# Altium footprint library PcbLib1.PcbLib: 32 footprints (part 2 of 2)
Each footprint in its own frame and in the unit in brackets; x right, y up, seen from the top. Pads: shape width x height; smd on the part's side, far side on the other; paste and mask are expansions set on the pad; w line width, h text height; cw(c..) or ccw(c..) is an arc to the next point about the centre after c.
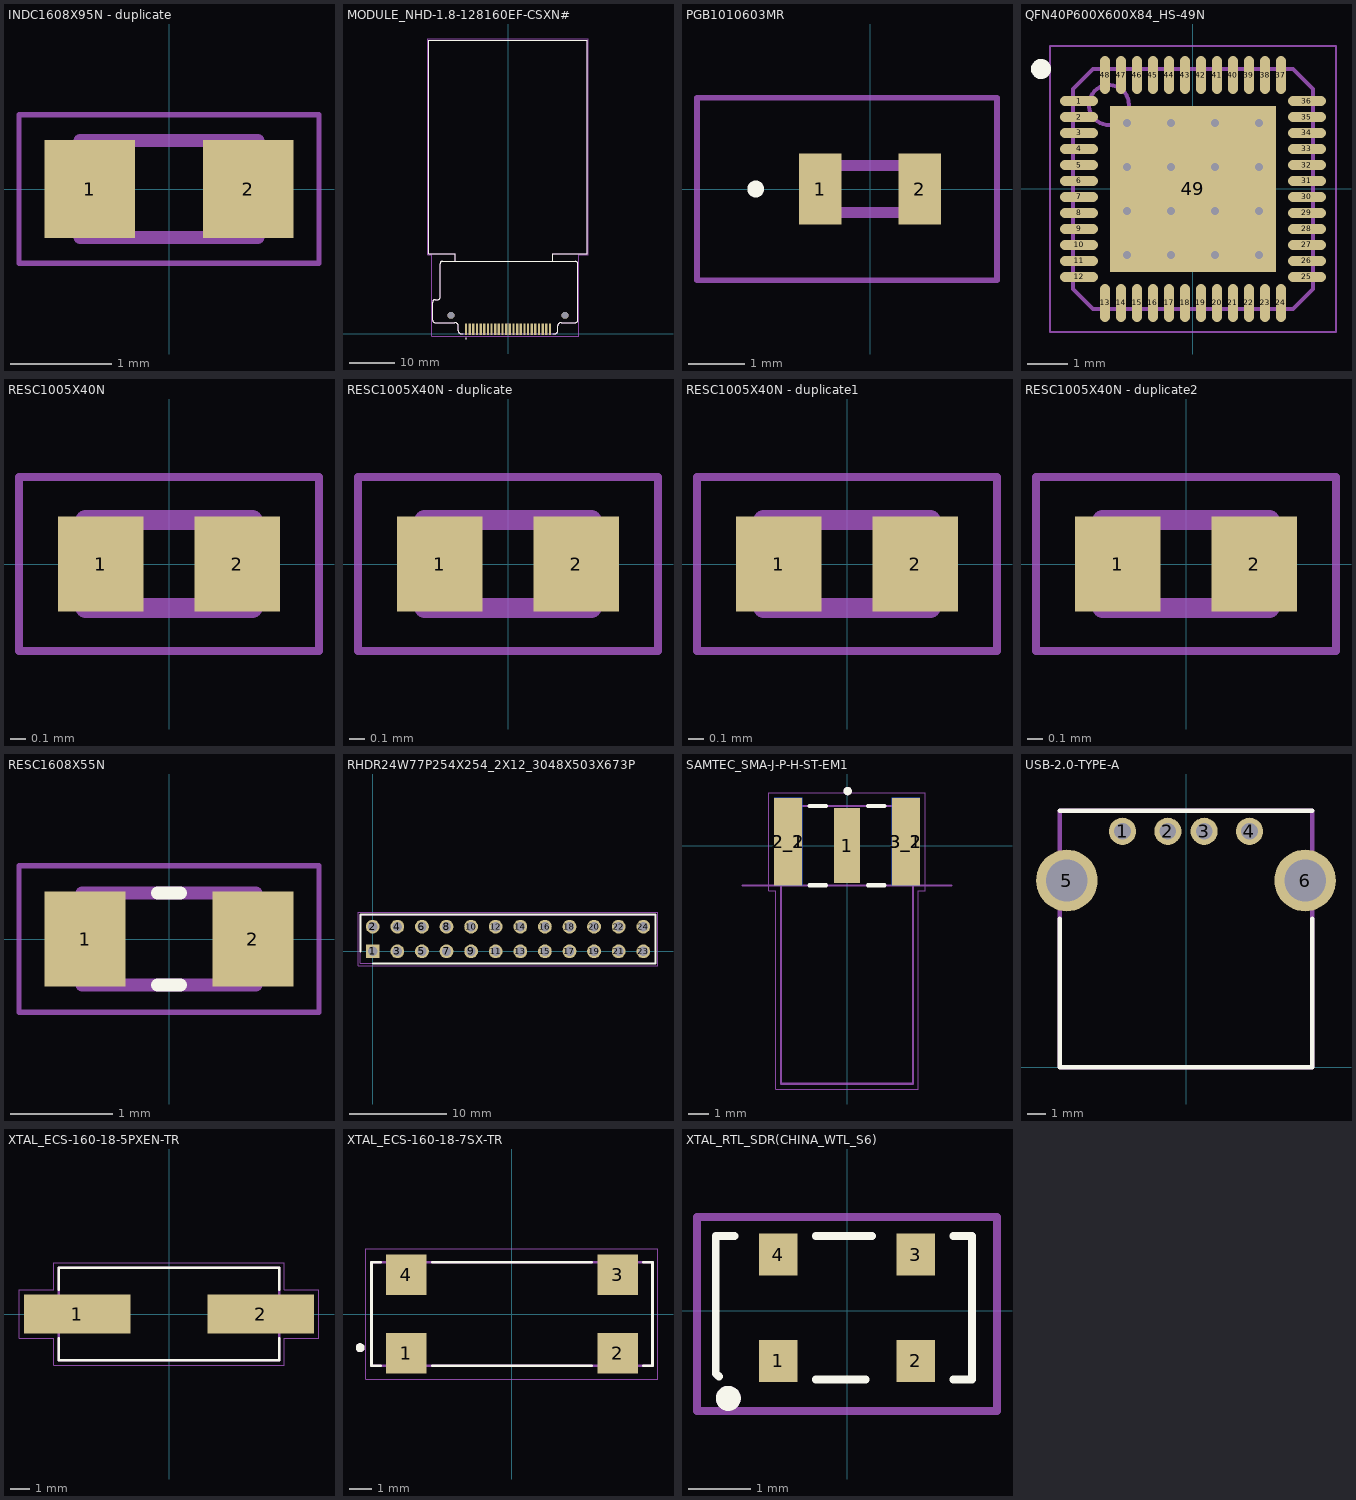
[diagram p1: the footprints below, top view; thin cyan lines are the x and y axes]

## INDC1608X95N - duplicate [mm]
pads (2):
  rect 0.9x0.97 smd: 1(-0.785,0) 2(0.785,0)
Mechanical 13:
  lines w0.127: -0.88,-0.48 -0.88,0.48 0.88,0.48 0.88,-0.48 -0.88,-0.48
Mechanical 15:
  lines w0.05: -1.485,-0.735 -1.485,0.735 1.485,0.735 1.485,-0.735 -1.485,-0.735
3D body "step_temp.STEP": height 0.81, standoff 0.01, extent -0.8,-0.4 0.8,0.4

## MODULE_NHD-1.8-128160EF-CSXN# [mm]
pads (26):
  rect 0.5x2.5 smd: 1(-9.2,1) 2(-8.4,1) 3(-7.6,1) 4(-6.8,1) 5(-6,1) 6(-5.2,1) 7(-4.4,1) 8(-3.6,1) 9(-2.8,1) 10(-2,1) 11(-1.2,1) 12(-0.4,1) 13(0.4,1) 14(1.2,1) 15(2,1) 16(2.8,1) 17(3.6,1) 18(4.4,1) 19(5.2,1) 20(6,1) 21(6.8,1) 22(7.6,1) 23(8.4,1) 24(9.2,1)
  round 1.5 hole 1.5 unplated: ""(-12.5,4.1) ""(12.5,4.1)
Top Overlay:
  circle w0.2: c-9.2,-1 r0.1
  lines w0.127: -11.55,15.9 -11.55,17.63 -17.35,17.63 -17.35,64.38 17.35,64.38 17.35,17.63 9.85,17.63 9.85,15.9 ; -9.77,0 -10.15,0 cw(c-10.15,0.75) -10.9,0.75 -10.9,1.75 ccw(c-11.65,1.75) -11.65,2.5 -15.99,2.5 cw(c-15.99,3) -16.49,3 -16.49,7 cw(c-15.99,7) -15.99,7.5 -15.39,7.5 ccw(c-15.39,8) -14.89,8 -14.89,15.4 cw(c-14.39,15.4) -14.39,15.9 14.8,15.9 cw(c14.8,15.4) 15.3,15.4 15.3,3 cw(c14.8,3) 14.8,2.5 11.65,2.5 ccw(c11.65,1.75) 10.9,1.75 10.9,0.75 cw(c10.15,0.75) 10.15,0 9.77,0
Mechanical 13:
  circle w0.2: c-9.2,-1 r0.1
  lines w0.127: -11.55,15.9 -14.39,15.9 ccw(c-14.39,15.4) -14.89,15.4 -14.89,8 cw(c-15.39,8) -15.39,7.5 -15.99,7.5 ccw(c-15.99,7) -16.49,7 -16.49,3 ccw(c-15.99,3) -15.99,2.5 -11.65,2.5 cw(c-11.65,1.75) -10.9,1.75 -10.9,0.75 ccw(c-10.15,0.75) -10.15,0 10.15,0 ccw(c10.15,0.75) 10.9,0.75 10.9,1.75 cw(c11.65,1.75) 11.65,2.5 14.8,2.5 ccw(c14.8,3) 15.3,3 15.3,15.4 ccw(c14.8,15.4) 14.8,15.9 9.85,15.9 ; -11.55,15.9 9.85,15.9 ; -11.55,15.9 -11.55,17.63 -17.35,17.63 -17.35,64.38 17.35,64.38 17.35,17.63 9.85,17.63 9.85,15.9
Mechanical 15:
  lines w0.05: -17.6,17.38 -16.74,17.38 -16.74,-0.5 15.55,-0.5 15.55,17.38 17.6,17.38 17.6,64.63 -17.6,64.63 -17.6,17.38
3D body "NHD-1.8-128160EF-CSXN#-F.STEP": height 2.4, standoff 0, extent -17.477,-0.238 17.223,64.142

## PCBComponent_1 [mm]

## PGB1010603MR [mm]
pads (2):
  rect 0.76x1.27 smd: 1(-0.89,0) 2(0.89,0)
Top Overlay:
  lines w0.2: -2.1,0 ccw(c-2.05,0) -2,0 ; -2.1,0 cw(c-2.05,0) -2,0 ; -2.1,0 ccw(c-2.05,0) -2,0
Mechanical 15:
  lines w0.2: -0.83,-0.42 0.83,-0.42 0.83,0.42 -0.83,0.42 -0.83,-0.42
Mechanical 20:
  lines w0.1: -3.1,-1.635 2.27,-1.635 2.27,1.635 -3.1,1.635 -3.1,-1.635
3D body "PGB1010603NR.stp": height 0.36, standoff 0, extent -0.83,-0.42 0.83,0.42

## QFN40P600X600X84_HS-49N [mm] "QFN, 48-Leads, Body 6,00x6,00mm, Pitch 0,40mm, Thermal Pad 4,14x4,14mm, IPC Medium Density"
height 0.84
pads (49):
  oval 0.95x0.25 smd: 1(-2.85,2.2) 2(-2.85,1.8) 3(-2.85,1.4) 4(-2.85,1) 5(-2.85,0.6) 6(-2.85,0.2) 7(-2.85,-0.2) 8(-2.85,-0.6) 9(-2.85,-1) 10(-2.85,-1.4) 11(-2.85,-1.8) 12(-2.85,-2.2) 25(2.85,-2.2) 26(2.85,-1.8) 27(2.85,-1.4) 28(2.85,-1) 29(2.85,-0.6) 30(2.85,-0.2) 31(2.85,0.2) 32(2.85,0.6) 33(2.85,1) 34(2.85,1.4) 35(2.85,1.8) 36(2.85,2.2)
  oval 0.25x0.95 smd: 13(-2.2,-2.85) 14(-1.8,-2.85) 15(-1.4,-2.85) 16(-1,-2.85) 17(-0.6,-2.85) 18(-0.2,-2.85) 19(0.2,-2.85) 20(0.6,-2.85) 21(1,-2.85) 22(1.4,-2.85) 23(1.8,-2.85) 24(2.2,-2.85) 37(2.2,2.85) 38(1.8,2.85) 39(1.4,2.85) 40(1,2.85) 41(0.6,2.85) 42(0.2,2.85) 43(-0.2,2.85) 44(-0.6,2.85) 45(-1,2.85) 46(-1.4,2.85) 47(-1.8,2.85) 48(-2.2,2.85)
  rect 4.14x4.14 smd: 49(0,0)
via 1.65,-1.65 diameter 0.5 hole 0.2
via 0.55,-1.65 diameter 0.5 hole 0.2
via -0.55,-1.65 diameter 0.5 hole 0.2
via -1.65,-1.65 diameter 0.5 hole 0.2
via 1.65,-0.55 diameter 0.5 hole 0.2
via 0.55,-0.55 diameter 0.5 hole 0.2
via -0.55,-0.55 diameter 0.5 hole 0.2
via -1.65,-0.55 diameter 0.5 hole 0.2
via 1.65,0.55 diameter 0.5 hole 0.2
via 0.55,0.55 diameter 0.5 hole 0.2
via -0.55,0.55 diameter 0.5 hole 0.2
via -1.65,0.55 diameter 0.5 hole 0.2
via 1.65,1.65 diameter 0.5 hole 0.2
via 0.55,1.65 diameter 0.5 hole 0.2
via -0.55,1.65 diameter 0.5 hole 0.2
via -1.65,1.65 diameter 0.5 hole 0.2
Top Overlay:
  circle w0.25: c-3.8,3 r0.125
Mechanical 13:
  circle w0.1: c-2.1,2.1 r0.5
  lines w0.1: -3,-2.5 -3,2.5 -2.5,3 2.5,3 3,2.5 3,-2.5 2.5,-3 -2.5,-3 -3,-2.5
Mechanical 15:
  lines w0.05: -3.575,-3.575 3.575,-3.575 3.575,3.575 -3.575,3.575 -3.575,-3.575
  lines w0.1: -0.5,0 0.5,0 ; 0,-0.5 0,0.5
3D body "QFN40P600X600X84_HS-49N.step": height 0.84, standoff 0, extent -3.01,-3.01 3.01,3.01

## RESC1005X40N [mm]
pads (2):
  rect 0.54x0.6 smd: 1(-0.432,0) 2(0.432,0)
Mechanical 13:
  lines w0.127: -0.53,-0.28 0.53,-0.28 0.53,0.28 -0.53,0.28 -0.53,-0.28
Mechanical 15:
  lines w0.05: -0.95,-0.55 0.95,-0.55 0.95,0.55 -0.95,0.55 -0.95,-0.55
3D body "RC0402JR-071K8L.STEP": height 0.4, standoff 0, extent -0.5,-0.25 0.5,0.25

## RESC1005X40N - duplicate [mm]
pads (2):
  rect 0.54x0.6 smd: 1(-0.432,0) 2(0.432,0)
Mechanical 13:
  lines w0.127: -0.53,-0.28 -0.53,0.28 0.53,0.28 0.53,-0.28 -0.53,-0.28
Mechanical 15:
  lines w0.05: -0.95,-0.55 -0.95,0.55 0.95,0.55 0.95,-0.55 -0.95,-0.55

## RESC1005X40N - duplicate1 [mm]
pads (2):
  rect 0.54x0.6 smd: 1(-0.432,0) 2(0.432,0)
Mechanical 13:
  lines w0.127: -0.53,-0.28 -0.53,0.28 0.53,0.28 0.53,-0.28 -0.53,-0.28
Mechanical 15:
  lines w0.05: -0.95,-0.55 -0.95,0.55 0.95,0.55 0.95,-0.55 -0.95,-0.55

## RESC1005X40N - duplicate2 [mm]
pads (2):
  rect 0.54x0.6 smd: 1(-0.432,0) 2(0.432,0)
Mechanical 13:
  lines w0.127: -0.53,-0.28 -0.53,0.28 0.53,0.28 0.53,-0.28 -0.53,-0.28
Mechanical 15:
  lines w0.05: -0.95,-0.55 -0.95,0.55 0.95,0.55 0.95,-0.55 -0.95,-0.55

## RESC1608X55N [mm]
pads (2):
  rect 0.79x0.93 smd: 1(-0.82,0) 2(0.82,0)
Top Overlay:
  lines w0.127: -0.11,-0.45 0.11,-0.45 ; -0.11,0.45 0.11,0.45
Mechanical 13:
  lines w0.127: -0.85,-0.45 -0.85,0.45 0.85,0.45 0.85,-0.45 -0.85,-0.45
Mechanical 15:
  lines w0.05: -1.465,-0.715 -1.465,0.715 1.465,0.715 1.465,-0.715 -1.465,-0.715
3D body "RC0603JR-071K8L.STEP": height 0.55, standoff 0, extent -0.8,-0.4 0.8,0.4

## RHDR24W77P254X254_2X12_3048X503X673P [mm]
pads (24):
  rect 1.425x1.425 / inner round 1.425 / far side rect 1.425x1.425 hole 0.95: 1(0,0)
  round 1.425 hole 0.95: 2(0,2.54) 3(2.54,0) 4(2.54,2.54) 5(5.08,0) 6(5.08,2.54) 7(7.62,0) 8(7.62,2.54) 9(10.16,0) 10(10.16,2.54) 11(12.7,0) 12(12.7,2.54) 13(15.24,0) 14(15.24,2.54) 15(17.78,0) 16(17.78,2.54) 17(20.32,0) 18(20.32,2.54) 19(22.86,0) 20(22.86,2.54) 21(25.4,0) 22(25.4,2.54) 23(27.94,0) 24(27.94,2.54)
Top Overlay:
  lines w0.2: -1.27,0 -1.27,3.785 29.21,3.785 29.21,-1.245 0,-1.245
Mechanical 15:
  lines w0.1: -1.27,-1.245 29.21,-1.245 29.21,3.785 -1.27,3.785 -1.27,-1.245
Mechanical 20:
  lines w0.05: -1.52,-1.495 29.46,-1.495 29.46,4.035 -1.52,4.035 -1.52,-1.495
3D body "6-534998-2.stp": height 6.22, standoff -3.68, extent -1.27,-1.245 29.21,3.785

## SAMTEC_SMA-J-P-H-ST-EM1 [mm]
pads (5):
  rect 1.27x3.6 smd: 1(0,0)
  rect 1.35x4.2 smd: 2_1(-2.825,0.2) 3_1(2.825,0.2)
  rect 1.35x4.2 smd far side: 2_2(-2.825,0.2) 3_2(2.825,0.2)
Top Overlay:
  circle w0.2: c0.03,2.62 r0.1
  lines w0.2: -1.8,-1.9 -1,-1.9 ; -1.8,1.91 -1,1.91 ; 1,-1.9 1.8,-1.9 ; 1,1.91 1.8,1.91
Mechanical 13:
  circle w0.2: c0.03,2.62 r0.1
  lines w0.1: -5,-1.9 -3.165,-1.9 ; 5,-1.9 3.165,-1.9 ; -3.165,-1.9 -3.165,-11.42 3.165,-11.42 3.165,-1.9 ; -3.165,-1.9 3.165,-1.9 ; -3.165,-1.9 -3.175,1.91 3.175,1.91 3.165,-1.9
  text "PCB EDGE" at 4.304,-1.702 h0.61
Mechanical 15:
  lines w0.05: -3.75,-2.15 -3.415,-2.15 -3.415,-11.67 3.415,-11.67 3.415,-2.15 3.75,-2.15 3.75,2.55 -3.75,2.55 -3.75,-2.15
3D body "SMA-J-P-H-ST-EM1--3DModel-STEP-46669.STEP": height 3.81, standoff -2.54, extent -3.175,-11.911 3.175,1.419

## USB-2.0-TYPE-A [mm]
pads (6):
  round 1.5 hole 0.92: 1(-3.5,13.01) 2(-1,13.01) 3(1,13.01) 4(3.5,13.01)
  round 3.4 hole 2.3: 5(-6.57,10.3) 6(6.57,10.3)
Top Overlay:
  lines w0.254: -6.95,8.2 -6.95,0 6.95,0 6.95,8.2 ; -6.95,14.15 6.95,14.15
Mechanical 15:
  lines w0.254: -6.95,0 -6.95,14.15 6.95,14.15 6.95,0 -6.95,0
3D body "614004190021.stp": height 4.2, standoff -7.2, extent -7.85,0 7.85,14.15

## XTAL_ECS-160-18-5PXEN-TR [mm]
pads (2):
  rect 5.5x2 smd: 1(-4.75,0) 2(4.75,0)
Top Overlay:
  lines w0.127: -5.7,-1.254 -5.7,-2.4 5.7,-2.4 5.7,-1.254 ; -5.7,1.254 -5.7,2.4 5.7,2.4 5.7,1.254
Mechanical 13:
  lines w0.127: -5.7,-2.4 -5.7,2.4 5.7,2.4 5.7,-2.4 -5.7,-2.4
Mechanical 15:
  lines w0.05: -7.75,-1.25 -5.95,-1.25 -5.95,-2.65 5.95,-2.65 5.95,-1.25 7.75,-1.25 7.75,1.25 5.95,1.25 5.95,2.65 -5.95,2.65 -5.95,1.25 -7.75,1.25 -7.75,-1.25
3D body "ECS-160-18-5PXEN-TR.STEP": height 4.3, standoff 0, extent -6.675,-2.5 6.525,2.3

## XTAL_ECS-160-18-7SX-TR [mm]
pads (4):
  rect 1.8x1.8 smd: 1(-4.7,-1.75) 2(4.7,-1.75) 3(4.7,1.75) 4(-4.7,1.75)
Top Overlay:
  circle w0.2: c-6.75,-1.5 r0.1
  lines w0.127: -5.854,-2.3 -6.25,-2.3 -6.25,2.3 -5.854,2.3 ; -3.546,-2.3 3.546,-2.3 ; -3.546,2.3 3.546,2.3 ; 5.854,-2.3 6.25,-2.3 6.25,2.3 5.854,2.3
Mechanical 13:
  circle w0.2: c-6.75,-1.5 r0.1
  lines w0.127: -6.25,-2.3 -6.25,2.3 6.25,2.3 6.25,-2.3 -6.25,-2.3
Mechanical 15:
  lines w0.05: -6.5,-2.9 -6.5,2.9 6.5,2.9 6.5,-2.9 -6.5,-2.9
3D body "step_temp.STEP": height 3.7, standoff 0, extent -6.25,-2.3 6.25,2.3

## XTAL_RTL_SDR(CHINA_WTL_S6) [mm]
pads (4):
  rect 0.62x0.67 smd: 1(-1.1,-0.8) 2(1.1,-0.8) 3(1.1,0.9) 4(-1.1,0.9)
Top Overlay:
  circle w0.2: c-1.9,-1.4 r0.1
  lines w0.127: -2.05,-1.05 -2.1,-1 -2.1,1.2 -1.8,1.2 ; -0.5,-1.1 0.3,-1.1 ; -0.5,1.2 0.4,1.2 ; 1.7,-1.1 2,-1.1 2,0.2 2,1.2 1.7,1.2
Mechanical 13:
  circle w0.2: c-1.9,-1.4 r0.1
  lines w0.127: -2.4,-1.6 2.4,-1.6 2.4,1.5 -2.4,1.5 -2.4,-1.6
Mechanical 15:
  lines w0.05: -2.4,-1.6 -2.4,1.5 2.4,1.5 2.4,-1.6 -2.4,-1.6